# Altium schematic symbol library Flash.SchLib: 2 symbols
Pins are listed as number, name and electrical type; pins without a type are passive.

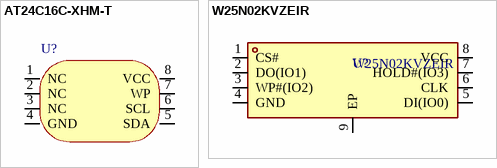
[diagram p0: symbols AT24C16C-XHM-T to W25N02KVZEIR]

## AT24C16C-XHM-T
designator U?  (value not drawn)
存储器接口类型:I2C;存储器容量:16Kb (2K x 8);工作电压:1.7V ~ 5.5V;; Manufacturer: MICROCHIP(美国微芯); Add into BOM: yes; Memory Format: EEPROM; Memory Interface: I2C; Name: AT24C16C-XHM-T; Symbol: AT24C16C-XHM-T; Device: AT24C16C-XHM-T; LCSC Part Name: AT24C16C-XHM-T; Supplier Part: C112954; Manufacturer Part: AT24C16C-XHM-T; Supplier Footprint: TSSOP-8; JLCPCB Part Class: 扩展库; Datasheet: https://atta.szlcsc.com/upload/public/pdf/source/20170601/1496285783851.pdf; Supplier: LCSC; Convert to PCB: yes; Memory Size: 16Kb (2K x 8); Voltage - Supply: 1.7V ~ 5.5V
footprint TSSOP-8_L4.4-W3.0-P0.65-LS6.4-BL - duplicate
pins: 1 NC, 2 NC, 3 NC, 4 GND, 5 SDA, 6 SCL, 7 WP, 8 VCC

## W25N02KVZEIR
designator U?
存储容量:2Gbit;时钟频率(fc):104MHz;工作电压:2.7V~3.6V;; Manufacturer: Winbond(华邦); SEEX_AUTHOR: ref42; SEEX_COMPONENT_ID: C3010298; Block Erase Time(tBE): 2ms; Clock Frequency: 104MHz; Data Retention - TDR (Year): 10年; ECC: 有; Interface: SPI; Memory Size: 2Gbit; Page Program time (TPP): 700us; Program / Erase Cycles: 6万次; Standby Supply Current: 10uA; SEEX_PROJECT_URL: https://github.com/ref42/seex; Footprint: WSON-8_L8.0-W6.0-P1.27-TL-EP-1; Datasheet: https://item.szlcsc.com/datasheet/W25N02KVZEIR/3508597.html; Features: 硬件写保护功能；读缓存功能；OTP区域写保护与锁定功能；ECC纠错功能；软件复位功能；写使能锁存；软件写保护功能; JLCPCB Part Class: Extended Part; LCSC Part Name: 支持双路/四路SPI、缓冲读取和顺序读取的SPI NAND闪存; Manufacturer Part: W25N02KVZEIR; Operating Temperature: -40℃~+85℃; Supplier: LCSC; Supplier Footprint: WSON-8-EP(6x8); Supplier Part: C3010298; Voltage - Supply: 2.7V~3.6V
footprint WSON-8_L8.0-W6.0-P1.27-TL-EP-1 (PCB footprint)
pins: 1 CS#, 2 DO(IO1), 3 WP#(IO2), 4 GND, 5 DI(IO0), 6 CLK, 7 HOLD#(IO3), 8 VCC, 9 EP